# Altium footprint library PCB - LEADED - SOT96P237X110-3N.PCBLIB: 1 footprints
Each footprint in its own frame and in the unit in brackets; x right, y up, seen from the top. Pads: shape width x height; smd on the part's side, far side on the other; paste and mask are expansions set on the pad; w line width, h text height; cw(c..) or ccw(c..) is an arc to the next point about the centre after c.
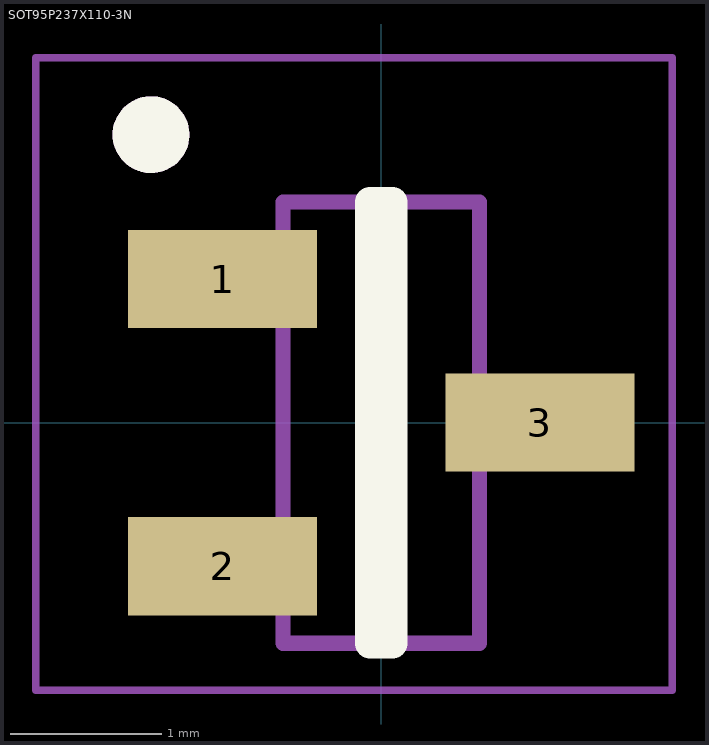
[diagram p0: the footprint, top view; thin cyan lines are the x and y axes]

## SOT95P237X110-3N [mm]
pads (3):
  rect 1.25x0.65 smd: 1(-1.05,0.95) 2(-1.05,-0.95) 3(1.05,0)
Top Overlay:
  circle w0.254: c-1.524,1.905 r0.127
  lines w0.2: -0.075,-1.46 0.075,-1.46 0.075,1.46 -0.075,1.46 -0.075,-1.46
Top Assembly:
  circle w0.254: c-1.524,1.905 r0.127
  lines w0.1: -0.65,-1.46 0.65,-1.46 0.65,1.46 -0.65,1.46 -0.65,-1.46
Top Courtyard:
  lines w0.05: -2.286,-1.77 1.925,-1.77 1.925,2.413 -2.286,2.413 -2.286,-1.77
Top Designator:
  text ".Designator" at -2.286,3.49 h1
Top Value (Mech13):
  text ".Comment" at -2.286,2.551 h1
3D body "SP1305-02HTG.stp": height 1.1, standoff 0, extent -1.185,-1.46 1.185,1.46